# Altium footprint library Loggerhead.PcbLib: 40 footprints (part 1 of 3)
Each footprint in its own frame and in the unit in brackets; x right, y up, seen from the top. Pads: shape width x height; smd on the part's side, far side on the other; paste and mask are expansions set on the pad; w line width, h text height; cw(c..) or ccw(c..) is an arc to the next point about the centre after c.
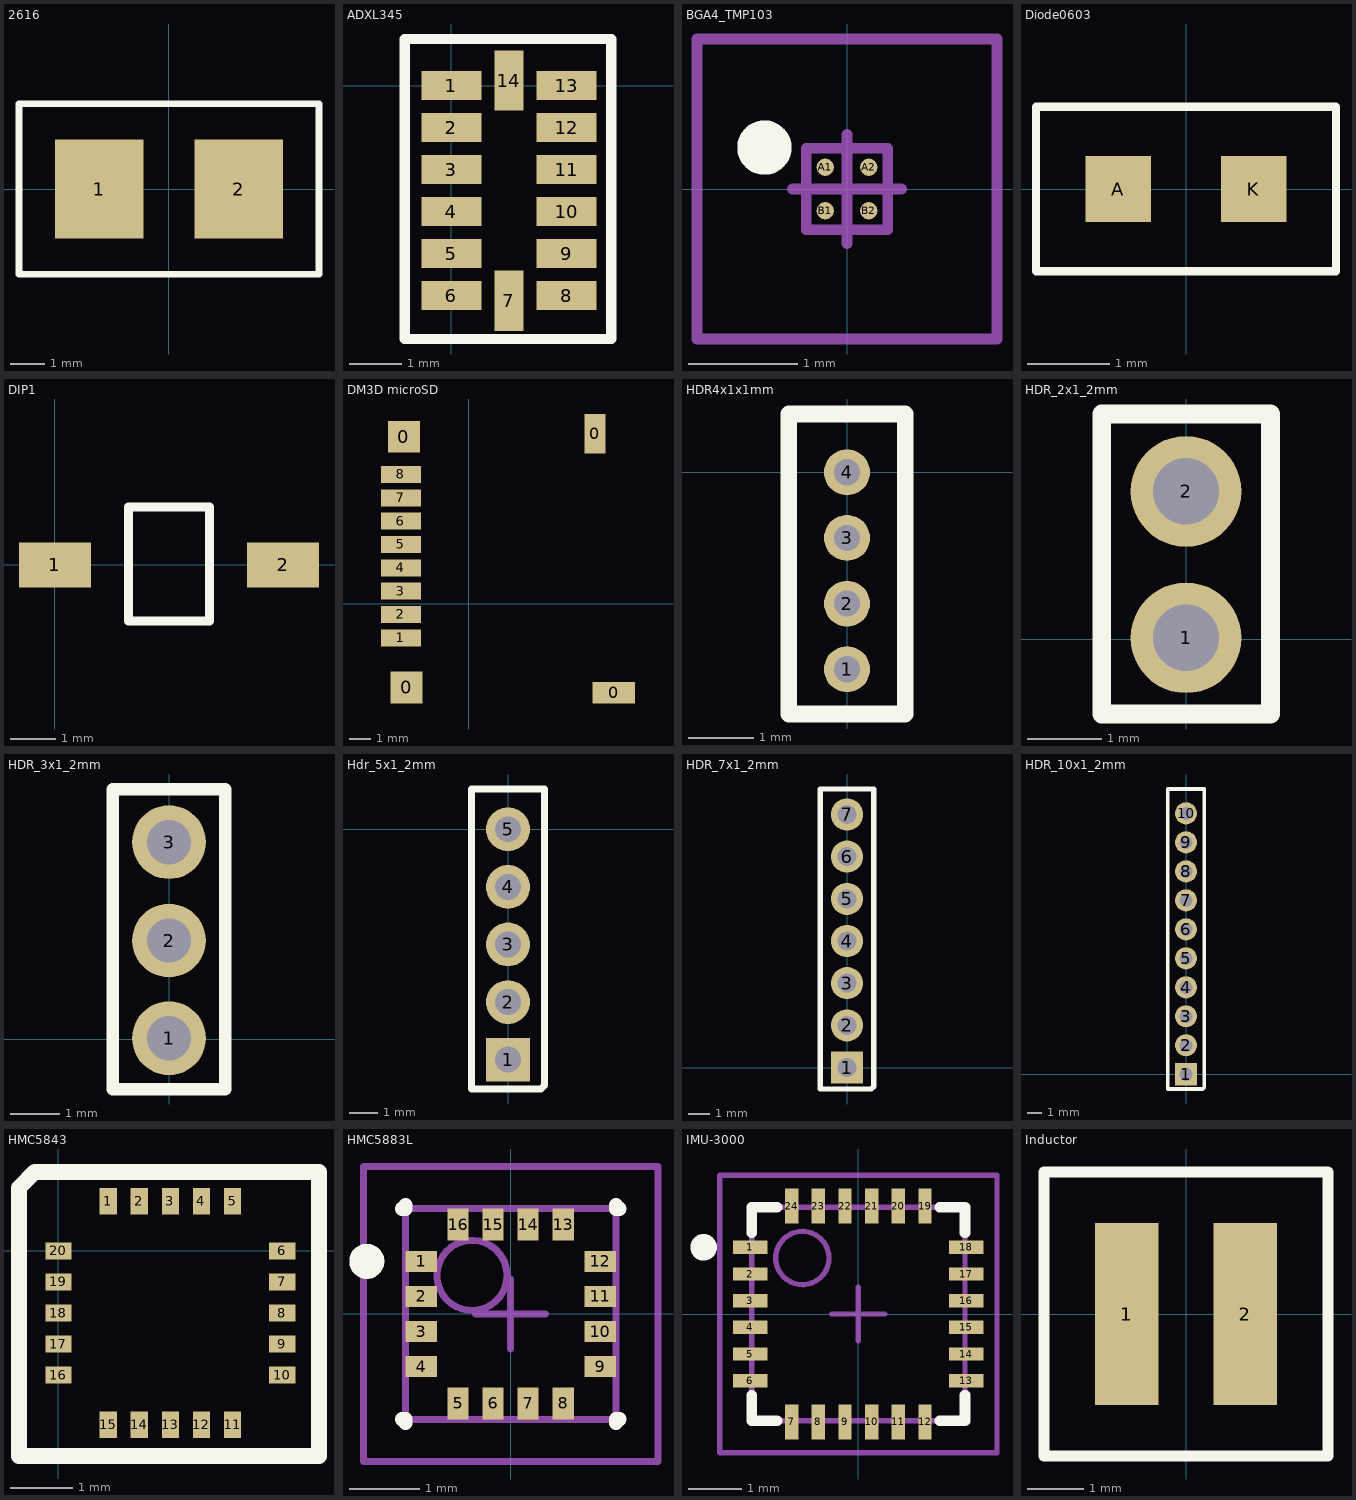
[diagram p0: the footprints below, top view; thin cyan lines are the x and y axes]

## 2616 [mm]
pads (2):
  rect 2.6x2.9 smd: 1(-2.05,0) 2(2.05,0)
Top Overlay:
  lines w0.2: -4.4,-2.5 -4.4,0 -4.4,2.5 4.4,2.5 4.4,-2.5 -4.4,-2.5

## ADXL345 [mm] "Digital Accelerometer"
height 0.95
pads (14):
  rect 1.145x0.55 smd: 1(0,0) 2(0,-0.8) 3(0,-1.6) 4(0,-2.4) 5(0,-3.2) 6(0,-4) 8(2.195,-4) 9(2.195,-3.2) 10(2.195,-2.4) 11(2.195,-1.6) 12(2.195,-0.8) 13(2.195,0)
  rect 0.55x1.145 smd: 7(1.098,-4.098) 14(1.098,0.098)
Top Overlay:
  lines w0.2: -0.889,-4.826 3.048,-4.826 3.048,0.889 -0.889,0.889 -0.889,-4.826

## BGA4_TMP103 [mm] "BGA, 4-Leads, Body 0.8x0.8mm,  Pitch 0.40mm"
height 0.625
pads (4):
  round 0.16 smd: A1(-0.2,0.2) A2(0.2,0.2) B1(-0.2,-0.2) B2(0.2,-0.2)
Top Overlay:
  circle w0.25: c-0.76,0.381 r0.125
Mechanical 13:
  lines w0.1: -0.375,-0.375 0.375,-0.375 0.375,0.375 -0.375,0.375 -0.375,-0.375
Mechanical 15:
  lines w0.1: -0.5,0 0.5,0 ; 0,-0.5 0,0.5 ; -1.38,-1.38 1.38,-1.38 1.38,1.38 -1.38,1.38 -1.38,-1.38
3D body: height 0.63, standoff 0.3, extent -0.375,-0.375 0.375,0.375

## Diode0603 [mm]
pads (2):
  rect 0.8x0.8 smd: A(-0.825,0) K(0.825,0)
Top Overlay:
  lines w0.1: -1.825,-1 1.825,-1 1.825,1 -1.825,1 -1.825,0 -1.825,-1

## DIP1 [mm]
pads (2):
  rect 1.6x1 smd: 1(0,0) 2(5.08,0)
Top Overlay:
  lines w0.2: 1.635,1.25 1.635,-1.25 3.445,-1.25 3.445,1.25 ; 1.635,1.29 3.445,1.29

## DM3D microSD [mm] "MICROSD_HIROSE Push-Pull"
pads (12):
  rect 1.5x1.5 smd: 0(-3.048,7.874) 0(-2.921,-3.937)
  rect 1x1.85 smd: 0(5.95,8.024)
  rect 2x1 smd: 0(6.85,-4.191)
  rect 1.9x0.8 smd: 1(-3.188,-1.601) 2(-3.188,-0.501) 3(-3.188,0.599) 4(-3.188,1.699) 5(-3.188,2.799) 6(-3.188,3.899) 7(-3.188,4.999) 8(-3.188,6.099)

## HDR4x1x1mm [mm] "Header with 1 mm centers"
pads (4):
  round 0.7 hole 0.4: 1(0,-3) 2(0,-2) 3(0,-1) 4(0,0)
Top Overlay:
  lines w0.254: -0.889,-3.683 0.889,-3.683 0.889,0.889 -0.889,0.889 -0.889,-3.683

## HDR_2x1_2mm [mm]
pads (2):
  round 1.5 hole 0.9: 1(0,0.016) 2(0,2)
Top Overlay:
  lines w0.254: -1.143,-1.016 1.143,-1.016 1.143,3.048 -1.143,3.048 -1.143,-1.016

## HDR_3x1_2mm [mm]
pads (3):
  round 1.5 hole 0.9: 1(0,0.016) 2(0,2) 3(0,4)
Top Overlay:
  lines w0.254: -1.143,-1.016 -1.143,5.08 1.143,5.08 1.143,-1.016 -1.143,-1.016

## Hdr_5x1_2mm [mil]
pads (5):
  rect 60x60 hole 35.43: 1(0,-314.96)
  round 60 hole 35.43: 2(0,-236.22) 3(0,-157.48) 4(0,-78.74) 5(0,0)
Top Overlay:
  lines w10: -50,-355 45,-355 50,-350 50,55 -50,55 -50,-355

## HDR_7x1_2mm [mil]
pads (7):
  rect 60x60 hole 35.43: 1(0,0.04)
  round 60 hole 35.43: 2(0,78.78) 3(0,157.52) 4(0,236.26) 5(0,315) 6(0,393.7) 7(0,472.44)
Top Overlay:
  lines w10: -50,-40 -50,520 50,520 50,-35 45,-40 -50,-40

## HDR_10x1_2mm [mil]
pads (10):
  rect 60x60 hole 35.43: 1(0,0.04)
  round 60 hole 35.43: 2(0,78.78) 3(0,157.52) 4(0,236.26) 5(0,315) 6(0,393.7) 7(0,472.44) 8(0,551.18) 9(0,629.92) 10(0,708.66)
Top Overlay:
  lines w10: -50,-40 45,-40 50,-35 50,775 -50,775 -50,-40

## HMC5843 [mm] "Compass"
height 1.3
pads (20):
  rect 0.275x0.425 smd: 1(0.8,0.8) 2(1.3,0.8) 3(1.8,0.8) 4(2.3,0.8) 5(2.8,0.8) 11(2.8,-2.8) 12(2.3,-2.8) 13(1.8,-2.8) 14(1.3,-2.8) 15(0.8,-2.8)
  rect 0.425x0.275 smd: 6(3.6,0) 7(3.6,-0.5) 8(3.6,-1) 9(3.6,-1.5) 10(3.6,-2) 16(0,-2) 17(0,-1.5) 18(0,-1) 19(0,-0.5) 20(0,0)
Top Overlay:
  lines w0.254: -0.635,-3.302 4.191,-3.302 4.191,1.27 -0.381,1.27 -0.635,1.016 -0.635,-3.302

## HMC5883L [mm] "Compass 3D Honeywell"
height 0.9
pads (16):
  rect 0.45x0.3 smd: 1(-1.275,0.75) 2(-1.275,0.25) 3(-1.275,-0.25) 4(-1.275,-0.75) 9(1.275,-0.75) 10(1.275,-0.25) 11(1.275,0.25) 12(1.275,0.75)
  rect 0.3x0.45 smd: 5(-0.75,-1.275) 6(-0.25,-1.275) 7(0.25,-1.275) 8(0.75,-1.275) 13(0.75,1.275) 14(0.25,1.275) 15(-0.25,1.275) 16(-0.75,1.275)
Top Overlay:
  circle w0.25: c-2.05,0.75 r0.125
  lines w0.2: -1.55,-1.5 -1.5,-1.5 -1.5,-1.55 ; -1.55,1.5 -1.5,1.5 -1.5,1.55 ; 1.5,-1.55 1.5,-1.5 1.55,-1.5 ; 1.5,1.55 1.5,1.5 1.55,1.5
Mechanical 13:
  circle w0.1: c-0.55,0.55 r0.5
  lines w0.1: -1.5,-1.5 1.5,-1.5 1.5,1.5 -1.5,1.5 -1.5,-1.5
Mechanical 15:
  lines w0.1: -0.5,0 0.5,0 ; 0,-0.5 0,0.5 ; -2.1,-2.1 2.1,-2.1 2.1,2.1 -2.1,2.1 -2.1,-2.1
3D body: height 0.9, standoff 0.02, extent -1.5,-1.5 1.5,1.5

## IMU-3000 [mm] "Invensense Gyro"
height 0.9
pads (24):
  rect 0.65x0.25 smd: 1(-2.025,1.25) 2(-2.025,0.75) 3(-2.025,0.25) 4(-2.025,-0.25) 5(-2.025,-0.75) 6(-2.025,-1.25) 13(2.025,-1.25) 14(2.025,-0.75) 15(2.025,-0.25) 16(2.025,0.25) 17(2.025,0.75) 18(2.025,1.25)
  rect 0.25x0.65 smd: 7(-1.25,-2.025) 8(-0.75,-2.025) 9(-0.25,-2.025) 10(0.25,-2.025) 11(0.75,-2.025) 12(1.25,-2.025) 19(1.25,2.025) 20(0.75,2.025) 21(0.25,2.025) 22(-0.25,2.025) 23(-0.75,2.025) 24(-1.25,2.025)
Top Overlay:
  circle w0.25: c-2.9,1.25 r0.125
  lines w0.2: -2,-1.525 -2,-2 -1.525,-2 ; -2,1.525 -2,2 -1.525,2 ; 1.525,-2 2,-2 2,-1.525 ; 1.525,2 2,2 2,1.525
Mechanical 13:
  circle w0.1: c-1.05,1.05 r0.5
  lines w0.1: -2,-2 2,-2 2,2 -2,2 -2,-2
Mechanical 15:
  lines w0.1: -0.5,0 0.5,0 ; 0,-0.5 0,0.5 ; -2.6,-2.6 2.6,-2.6 2.6,2.6 -2.6,2.6 -2.6,-2.6
3D body: height 0.9, standoff 0.02, extent -2,-2 2,2

## Inductor [mm]
height 1.55
pads (2):
  rect 1.12x3.2 smd: 1(-1.04,0) 2(1.04,0)
Top Overlay:
  lines w0.2: -2.5,-2.5 2.5,-2.5 2.5,2.5 -2.5,2.5 -2.5,0 -2.5,-2.5